# Altium footprint library QFP_Rect_100P_Side_N.PcbLib: 3 footprints
Each footprint in its own frame and in the unit in brackets; x right, y up, seen from the top. Pads: shape width x height; smd on the part's side, far side on the other; paste and mask are expansions set on the pad; w line width, h text height; cw(c..) or ccw(c..) is an arc to the next point about the centre after c.
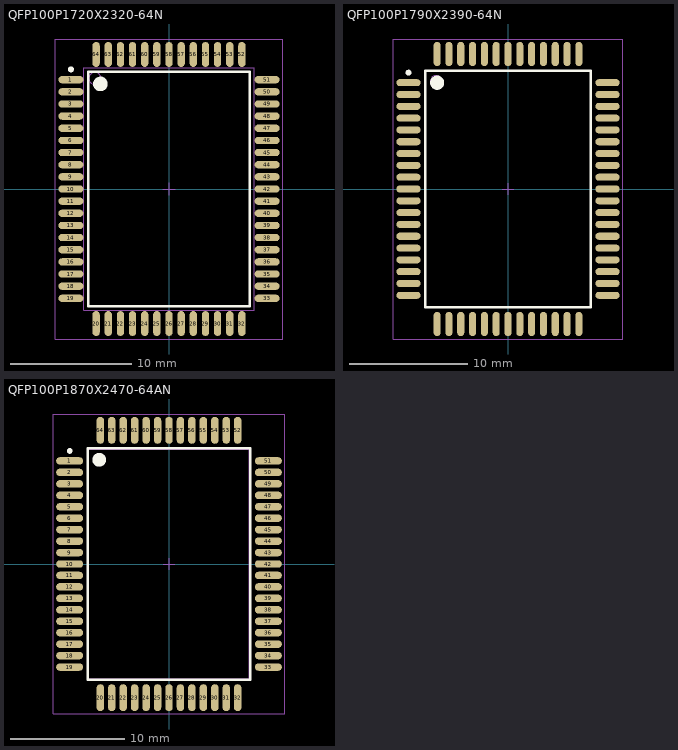
[diagram p0: the footprints below, top view; thin cyan lines are the x and y axes]

## QFP100P1720X2320-64N [mm]
pads (64):
  oval 2.05x0.6 smd: 1(-8.075,9) 2(-8.075,8) 3(-8.075,7) 4(-8.075,6) 5(-8.075,5) 6(-8.075,4) 7(-8.075,3) 8(-8.075,2) 9(-8.075,1) 10(-8.075,0) 11(-8.075,-1) 12(-8.075,-2) 13(-8.075,-3) 14(-8.075,-4) 15(-8.075,-5) 16(-8.075,-6) 17(-8.075,-7) 18(-8.075,-8) 19(-8.075,-9) 33(8.075,-9) 34(8.075,-8) 35(8.075,-7) 36(8.075,-6) 37(8.075,-5) 38(8.075,-4) 39(8.075,-3) 40(8.075,-2) 41(8.075,-1) 42(8.075,0) 43(8.075,1) 44(8.075,2) 45(8.075,3) 46(8.075,4) 47(8.075,5) 48(8.075,6) 49(8.075,7) 50(8.075,8) 51(8.075,9)
  oval 0.6x2.05 smd: 20(-6,-11.075) 21(-5,-11.075) 22(-4,-11.075) 23(-3,-11.075) 24(-2,-11.075) 25(-1,-11.075) 26(0,-11.075) 27(1,-11.075) 28(2,-11.075) 29(3,-11.075) 30(4,-11.075) 31(5,-11.075) 32(6,-11.075) 52(6,11.075) 53(5,11.075) 54(4,11.075) 55(3,11.075) 56(2,11.075) 57(1,11.075) 58(0,11.075) 59(-1,11.075) 60(-2,11.075) 61(-3,11.075) 62(-4,11.075) 63(-5,11.075) 64(-6,11.075)
Top Overlay:
  circle w0.6: c-5.65,8.65 r0.3
  circle w0.25: c-8.075,9.85 r0.125
  lines w0.2: -6.65,-9.65 6.65,-9.65 6.65,9.65 -6.65,9.65 -6.65,-9.65
Mechanical 13:
  circle w0.1: c-6.1,9.1 r0.5
  lines w0.1: -7,-10 7,-10 7,10 -7,10 -7,-10
Mechanical 15:
  lines w0.1: -0.5,0 0.5,0 ; 0,-0.5 0,0.5 ; -9.35,-12.35 9.35,-12.35 9.35,12.35 -9.35,12.35 -9.35,-12.35
3D body: height 0, standoff 0, extent -7,-10 7,10

## QFP100P1790X2390-64N [mm]
pads (64):
  oval 2.05x0.6 smd: 1(-8.425,9) 2(-8.425,8) 3(-8.425,7) 4(-8.425,6) 5(-8.425,5) 6(-8.425,4) 7(-8.425,3) 8(-8.425,2) 9(-8.425,1) 10(-8.425,0) 11(-8.425,-1) 12(-8.425,-2) 13(-8.425,-3) 14(-8.425,-4) 15(-8.425,-5) 16(-8.425,-6) 17(-8.425,-7) 18(-8.425,-8) 19(-8.425,-9) 33(8.425,-9) 34(8.425,-8) 35(8.425,-7) 36(8.425,-6) 37(8.425,-5) 38(8.425,-4) 39(8.425,-3) 40(8.425,-2) 41(8.425,-1) 42(8.425,0) 43(8.425,1) 44(8.425,2) 45(8.425,3) 46(8.425,4) 47(8.425,5) 48(8.425,6) 49(8.425,7) 50(8.425,8) 51(8.425,9)
  oval 0.6x2.05 smd: 20(-6,-11.425) 21(-5,-11.425) 22(-4,-11.425) 23(-3,-11.425) 24(-2,-11.425) 25(-1,-11.425) 26(0,-11.425) 27(1,-11.425) 28(2,-11.425) 29(3,-11.425) 30(4,-11.425) 31(5,-11.425) 32(6,-11.425) 52(6,11.425) 53(5,11.425) 54(4,11.425) 55(3,11.425) 56(2,11.425) 57(1,11.425) 58(0,11.425) 59(-1,11.425) 60(-2,11.425) 61(-3,11.425) 62(-4,11.425) 63(-5,11.425) 64(-6,11.425)
Top Overlay:
  circle w0.25: c-8.425,9.85 r0.125
  circle w0.6: c-6,9 r0.3
  lines w0.2: -7,-10 -7,10 7,10 7,-10 -7,-10
Mechanical 13:
  circle w0.1: c-6.1,9.1 r0.5
  lines w0.1: -7,-10 -7,10 7,10 7,-10 -7,-10
Mechanical 15:
  lines w0.1: -0.5,0 0.5,0 ; 0,-0.5 0,0.5 ; -9.7,-12.7 -9.7,12.7 9.7,12.7 9.7,-12.7 -9.7,-12.7
3D body: height 0, standoff 0, extent -7,-10 7,10

## QFP100P1870X2470-64AN [mm] "QFP, 64-Leads, Body 20x14mm, Pitch 1mm, IPC Medium Density"
height 2.3
pads (64):
  oval 2.35x0.65 smd: 1(-8.675,9) 2(-8.675,8) 3(-8.675,7) 4(-8.675,6) 5(-8.675,5) 6(-8.675,4) 7(-8.675,3) 8(-8.675,2) 9(-8.675,1) 10(-8.675,0) 11(-8.675,-1) 12(-8.675,-2) 13(-8.675,-3) 14(-8.675,-4) 15(-8.675,-5) 16(-8.675,-6) 17(-8.675,-7) 18(-8.675,-8) 19(-8.675,-9) 33(8.675,-9) 34(8.675,-8) 35(8.675,-7) 36(8.675,-6) 37(8.675,-5) 38(8.675,-4) 39(8.675,-3) 40(8.675,-2) 41(8.675,-1) 42(8.675,0) 43(8.675,1) 44(8.675,2) 45(8.675,3) 46(8.675,4) 47(8.675,5) 48(8.675,6) 49(8.675,7) 50(8.675,8) 51(8.675,9)
  oval 0.65x2.35 smd: 20(-6,-11.675) 21(-5,-11.675) 22(-4,-11.675) 23(-3,-11.675) 24(-2,-11.675) 25(-1,-11.675) 26(0,-11.675) 27(1,-11.675) 28(2,-11.675) 29(3,-11.675) 30(4,-11.675) 31(5,-11.675) 32(6,-11.675) 52(6,11.675) 53(5,11.675) 54(4,11.675) 55(3,11.675) 56(2,11.675) 57(1,11.675) 58(0,11.675) 59(-1,11.675) 60(-2,11.675) 61(-3,11.675) 62(-4,11.675) 63(-5,11.675) 64(-6,11.675)
Top Overlay:
  circle w0.6: c-6.1,9.1 r0.3
  circle w0.25: c-8.675,9.875 r0.125
  lines w0.2: -7.1,-10.1 7.1,-10.1 7.1,10.1 -7.1,10.1 -7.1,-10.1
Mechanical 13:
  circle w0.1: c-6.1,9.1 r0.5
  lines w0.1: -7,-10 7,-10 7,10 -7,10 -7,-10
Mechanical 15:
  lines w0.1: -0.5,0 0.5,0 ; 0,-0.5 0,0.5 ; -10.1,-13.1 10.1,-13.1 10.1,13.1 -10.1,13.1 -10.1,-13.1
3D body: height 2.3, standoff 0, extent -7,-10 7,10